# Altium footprint library PCB - CRYSTALS - SJK 7U 3225.PCBLIB: 1 footprints
Each footprint in its own frame and in the unit in brackets; x right, y up, seen from the top. Pads: shape width x height; smd on the part's side, far side on the other; paste and mask are expansions set on the pad; w line width, h text height; cw(c..) or ccw(c..) is an arc to the next point about the centre after c.
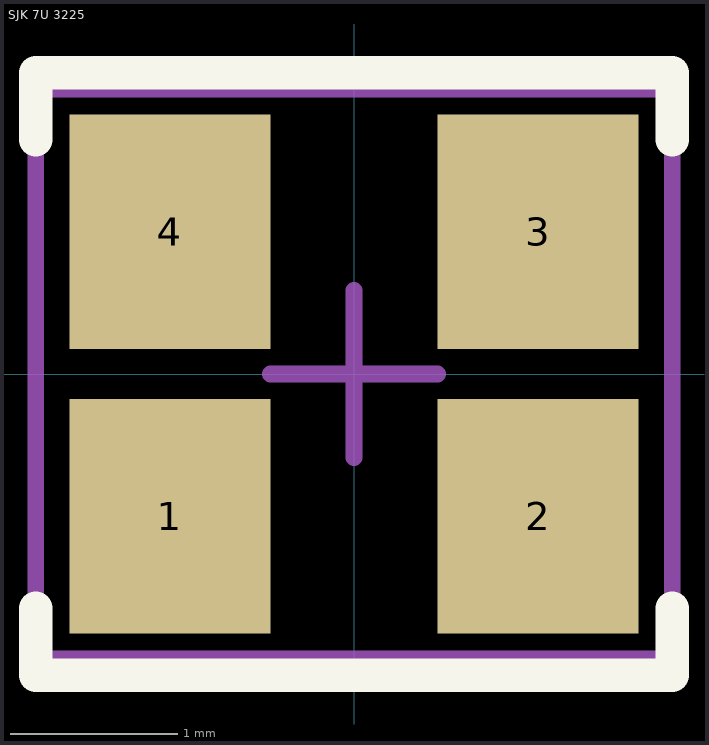
[diagram p0: the footprint, top view; thin cyan lines are the x and y axes]

## SJK 7U 3225 [mm] "Crystal, 2-Leads, Body 3.20x2.50mm, IPC Medium Density"
height 0.7
pads (4):
  rect 1.2x1.4 smd: 1(-1.1,-0.85) 2(1.1,-0.85) 3(1.1,0.85) 4(-1.1,0.85)
Top Overlay:
  lines w0.2: -1.9,-1.4 -1.9,-1.8 1.9,-1.8 1.9,-1.4 ; -1.9,1.4 -1.9,1.8 1.9,1.8 1.9,1.4
  text "." at -2.3,-1.2 h2.5
Top Assembly:
  lines w0.1: -1.9,-1.7 1.9,-1.7 1.9,1.7 -1.9,1.7 -1.9,-1.7
Top Component Center:
  lines w0.1: -0.5,0 0.5,0 ; 0,-0.5 0,0.5
Top Courtyard:
  lines w0.05: -1.9,-1.7 -1.9,1.7 1.9,1.7 1.9,-1.7 -1.9,-1.7
3D body "User Library-User Library-Siward_SX3225.step": height 0.81, standoff 0, extent -1.6,-1.25 1.6,1.25